# EAGLE library part CYRAS_BQ2057W_PW_8 (library DLOCK_DAUGHTER_CARD_V0.2)
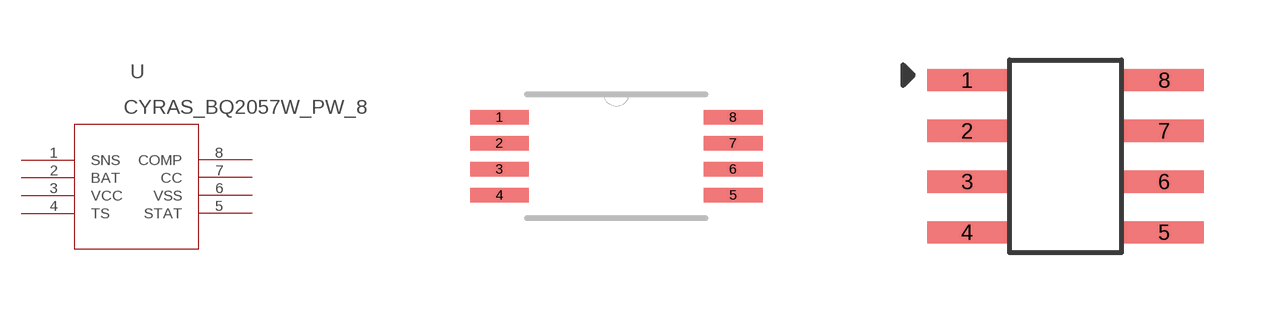
[diagram p0: symbol with the pads of CYRAS_PW8; footprints CYRAS_PW8, D8]

Designator prefix U

## CYRAS_BQ2057W_PW_81 (DATASHEETURL: http://www.ti.com/lit/gpn/BQ2057W; DESCRIPTION: Low Dropout Linear 2-cell Li-Ion Charge Controller with AutoCompTM, 8.4V; FAMILY_NAME: BATTERY CHARGE MANAGEMENT; GENERIC_PART_NUMBER: BQ2057W; INDUSTRY_STD_PKG_TYPE: TSSOP; MANUFACTURER: Texas Instruments; PACKAGE_DESIGNATOR: PW; PIN_COUNT: 8)  [CYRAS_PW8]
1  SNS  in
2  BAT  in
3  VCC  pwr
4  TS  in
5  STAT  out
6  VSS  pwr
7  CC  out
8  COMP  in

## CYRAS_BQ2057W_PW_82  [D8]
1  VCC  pwr
2  TS  in
3  STAT  out
4  VSS  pwr
5  CC  out
6  COMP  in
7  SNS  in
8  BAT  in

## CYRAS_BQ2057W_PW_83  [D8-L]
Pads as for D8

## CYRAS_BQ2057W_PW_84  [D8-M]
Pads as for D8

## Footprint CYRAS_PW8 (pad centres in mm)
smd 1.473 x 0.356: 1 -2.921,0.975; 2 -2.921,0.325; 3 -2.921,-0.325; 4 -2.921,-0.975; 5 2.921,-0.975; 6 2.921,-0.325; 7 2.921,0.325; 8 2.921,0.975

## Footprint D8 (pad centres in mm)
smd 1.981 x 0.559: 1 -2.464,1.905; 2 -2.464,0.635; 3 -2.464,-0.635; 4 -2.464,-1.905; 5 2.464,-1.905; 6 2.464,-0.635; 7 2.464,0.635; 8 2.464,1.905

## Footprint D8-L (pad centres in mm)
smd 1.676 x 0.508: 1 -2.413,1.905; 2 -2.413,0.635; 3 -2.413,-0.635; 4 -2.413,-1.905; 5 2.413,-1.905; 6 2.413,-0.635; 7 2.413,0.635; 8 2.413,1.905

## Footprint D8-M (pad centres in mm)
smd 2.286 x 0.61: 1 -2.515,1.905; 2 -2.515,0.635; 3 -2.515,-0.635; 4 -2.515,-1.905; 5 2.515,-1.905; 6 2.515,-0.635; 7 2.515,0.635; 8 2.515,1.905